# Altium schematic symbol library IHLP2525CZER100M01.SchLib: 1 symbol
Pins are listed as number, name and electrical type; pins without a type are passive.

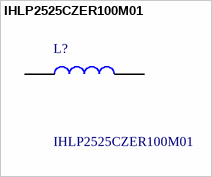
[diagram p0: symbol IHLP2525CZER100M01]

## IHLP2525CZER100M01
designator L?
Vishay IHLP Series Type 2525 Shielded Wire-wound SMD Inductor with a Metal Composite Core, 10 uH +/-20% Wire-Wound; Geometry.Height: 3mm; Manufacturer_Name: Vishay; Manufacturer_Part_Number: IHLP2525CZER100M01; Mouser Part Number: 70-IHLP2525CZER100M0; Mouser Price/Stock: https://www.mouser.co.uk/ProductDetail/Vishay-Dale/IHLP2525CZER100M01?qs=PA%252BPfIdQ8xl3JLrMc5InbA%3D%3D; Arrow Part Number: IHLP2525CZER100M01; Arrow Price/Stock: https://www.arrow.com/en/products/ihlp2525czer100m01/vishay?utm_currency=USD&region=nac; Datasheet Link: https://www.vishay.com/docs/34104/ihlp-2525cz-01.pdf
footprint INDPM6965X300N
pins: 1, 2